# EAGLE library part CH340N (library innove-ic-comms)
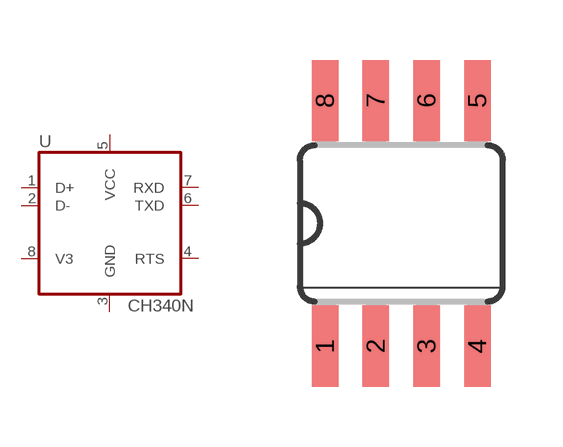
[diagram p3: symbol with the pads of SO08; footprint SO08]

Designator prefix U

## CH340N  [SO08]
1  D+
2  D-
3  GND
4  RTS
5  VCC
6  TXD
7  RXD
8  V3

## Footprint SO08 (pad centres in mm)
Small Outline package 150 mil
smd 0.66 x 2.032: 1 -1.905,-3.073; 2 -0.635,-3.073; 3 0.635,-3.073; 4 1.905,-3.073; 5 1.905,3.073; 6 0.635,3.073; 7 -0.635,3.073; 8 -1.905,3.073